# Altium footprint library SI4432.PcbLib: 3 footprints
Each footprint in its own frame and in the unit in brackets; x right, y up, seen from the top. Pads: shape width x height; smd on the part's side, far side on the other; paste and mask are expansions set on the pad; w line width, h text height; cw(c..) or ccw(c..) is an arc to the next point about the centre after c.
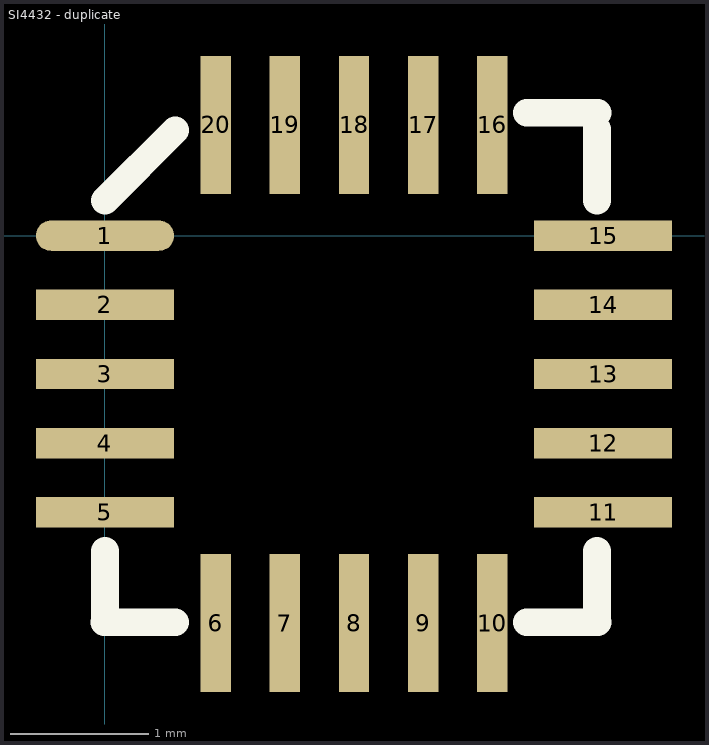
[diagram p0: the footprints below, top view; thin cyan lines are the x and y axes]

## PCBComponent_1 [mm]

## si4432 [mm]

## SI4432 - duplicate [mm]
pads (20):
  oval 1x0.22 smd: 1(0,0)
  rect 1x0.22 smd: 2(0,-0.5) 3(0,-1) 4(0,-1.5) 5(0,-2) 11(3.6,-2) 12(3.6,-1.5) 13(3.6,-1) 14(3.6,-0.5) 15(3.6,0)
  rect 0.22x1 smd: 6(0.8,-2.8) 7(1.3,-2.8) 8(1.8,-2.8) 9(2.3,-2.8) 10(2.8,-2.8) 16(2.8,0.8) 17(2.3,0.8) 18(1.8,0.8) 19(1.3,0.8) 20(0.8,0.8)
Top Overlay:
  lines w0.2: -0.006,-2.794 0.508,-2.794 ; 0,-2.794 0,-2.28 ; 0,0.254 0.508,0.762 ; 3.048,-2.794 3.562,-2.794 ; 3.048,0.889 3.562,0.889 ; 3.556,-2.794 3.556,-2.28 ; 3.556,0.254 3.556,0.768